# Altium footprint library Sensor_Humidity.PcbLib: 4 footprints
Each footprint in its own frame and in the unit in brackets; x right, y up, seen from the top. Pads: shape width x height; smd on the part's side, far side on the other; paste and mask are expansions set on the pad; w line width, h text height; cw(c..) or ccw(c..) is an arc to the next point about the centre after c.
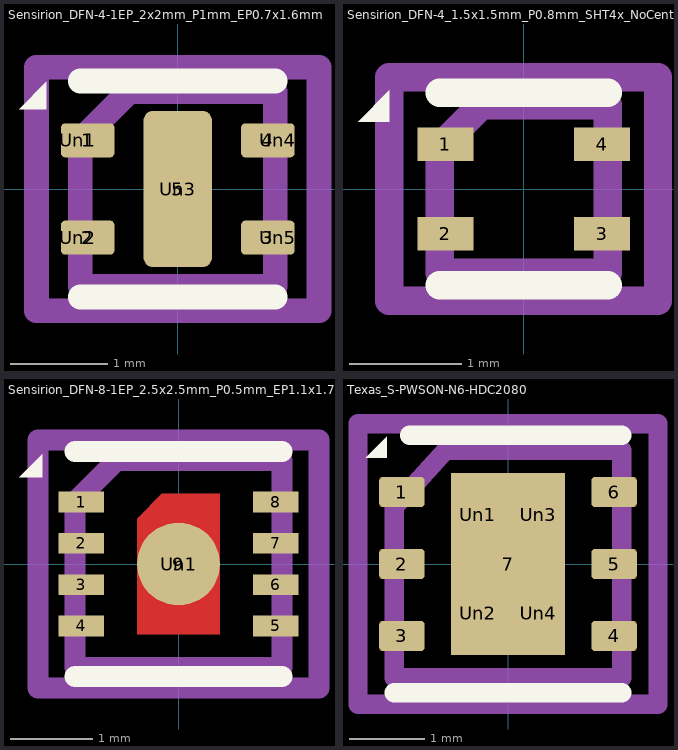
[diagram p0: the footprints below, top view; thin cyan lines are the x and y axes]

## Sensirion_DFN-4-1EP_2x2mm_P1mm_EP0.7x1.6mm [mm]
pads (10):
  rrect25% 0.55x0.35 smd: 1(-0.925,0.5) 2(-0.925,-0.5) 3(0.925,-0.5) 4(0.925,0.5)
  rrect25% 0.7x1.6 smd: 5(0,0)
  rrect25% 0.55x0.35 on Top Paste: Un1(-1.025,0.5) Un2(-1.025,-0.5) Un4(1.025,0.5) Un5(1.025,-0.5)
  rrect25% 0.5x1.4 on Top Paste: Un3(0,0)
F.SilkS:
  region: -1.35,0.82 -1.63,0.82 -1.35,1.1
  lines w0.254: -1,-1.11 1,-1.11 ; -1,1.11 1,1.11
F.Fab:
  lines w0.254: -1,-1 -1,0.5 -0.5,1 1,1 1,-1 -1,-1
  text "'.Designator'" at -2.028,-0.425 h0.5
F.CrtYd:
  lines w0.254: -1.45,-1.25 -1.45,1.25 1.45,1.25 1.45,-1.25 -1.45,-1.25

## Sensirion_DFN-4_1.5x1.5mm_P0.8mm_SHT4x_NoCentralPad [mm]
pads (4):
  rect 0.5x0.3 smd: 1(-0.7,0.4) 2(-0.7,-0.4) 3(0.7,-0.4) 4(0.7,0.4)
F.SilkS:
  region: -1.2,0.6 -1.48,0.6 -1.2,0.88
  lines w0.254: -0.75,-0.86 0.75,-0.86 ; -0.75,0.86 0.75,0.86
F.Fab:
  lines w0.254: -0.75,-0.75 -0.75,0.375 -0.375,0.75 0.75,0.75 0.75,-0.75 -0.75,-0.75
  text "'.Designator'" at -1.541,-0.322 h0.38
F.CrtYd:
  lines w0.254: -1.2,-1 -1.2,1 1.2,1 1.2,-1 -1.2,-1

## Sensirion_DFN-8-1EP_2.5x2.5mm_P0.5mm_EP1.1x1.7mm [mm]
pads (10):
  rect 0.55x0.25 smd: 1(-1.175,0.75) 2(-1.175,0.25) 3(-1.175,-0.25) 4(-1.175,-0.75) 5(1.175,-0.75) 6(1.175,-0.25) 7(1.175,0.25) 8(1.175,0.75)
  round 1 smd: 9(0,0)
  rect 0.9x0.9 on Top Paste: Un1(0,0)
F.Cu:
  region: 0.5,-0.85 -0.5,-0.85 -0.5,0.55 -0.2,0.85 0.5,0.85
F.SilkS:
  region: -1.65,1.05 -1.93,1.05 -1.65,1.33
  lines w0.254: -1.25,-1.36 1.25,-1.36 ; -1.25,1.36 1.25,1.36
F.Paste:
  region: 0.45,-0.8 -0.45,-0.8 -0.45,0.53 -0.18,0.8 0.45,0.8
F.Mask:
  region: 0.5,-0.85 -0.5,-0.85 -0.5,0.55 -0.2,0.85 0.5,0.85
F.Fab:
  lines w0.254: -1.25,-1.25 -1.25,0.75 -0.75,1.25 1.25,1.25 1.25,-1.25 -1.25,-1.25
  text "'.Designator'" at -1.619,-0.336 h0.4
F.CrtYd:
  lines w0.254: -1.7,-1.5 -1.7,1.5 1.7,1.5 1.7,-1.5 -1.7,-1.5

## Texas_S-PWSON-N6-HDC2080 [mm]
pads (11):
  rrect25% 0.6x0.4 smd: 1(-1.4,0.95) 2(-1.4,0) 3(-1.4,-0.95) 4(1.4,-0.95) 5(1.4,0) 6(1.4,0.95)
  rect 1.5x2.4 smd: 7(0,0)
  rrect25% 0.6x1 on Top Paste: Un1(-0.4,0.65) Un2(-0.4,-0.65) Un3(0.4,0.65) Un4(0.4,-0.65)
F.SilkS:
  region: -1.6,1.4 -1.88,1.4 -1.6,1.68
  lines w0.254: -1.5,-1.7 1.5,-1.7 ; -1.3,1.7 1.5,1.7
F.Fab:
  lines w0.254: -1.5,-1.5 -1.5,0.75 -0.825,1.5 1.5,1.5 1.5,-1.5 -1.5,-1.5
  text "'.Designator'" at -2.048,-0.445 h0.5
F.CrtYd:
  lines w0.254: -1.98,-1.85 -1.98,1.85 1.98,1.85 1.98,-1.85 -1.98,-1.85